# Altium footprint library Connectors.PcbLib: 6 footprints
Each footprint in its own frame and in the unit in brackets; x right, y up, seen from the top. Pads: shape width x height; smd on the part's side, far side on the other; paste and mask are expansions set on the pad; w line width, h text height; cw(c..) or ccw(c..) is an arc to the next point about the centre after c.
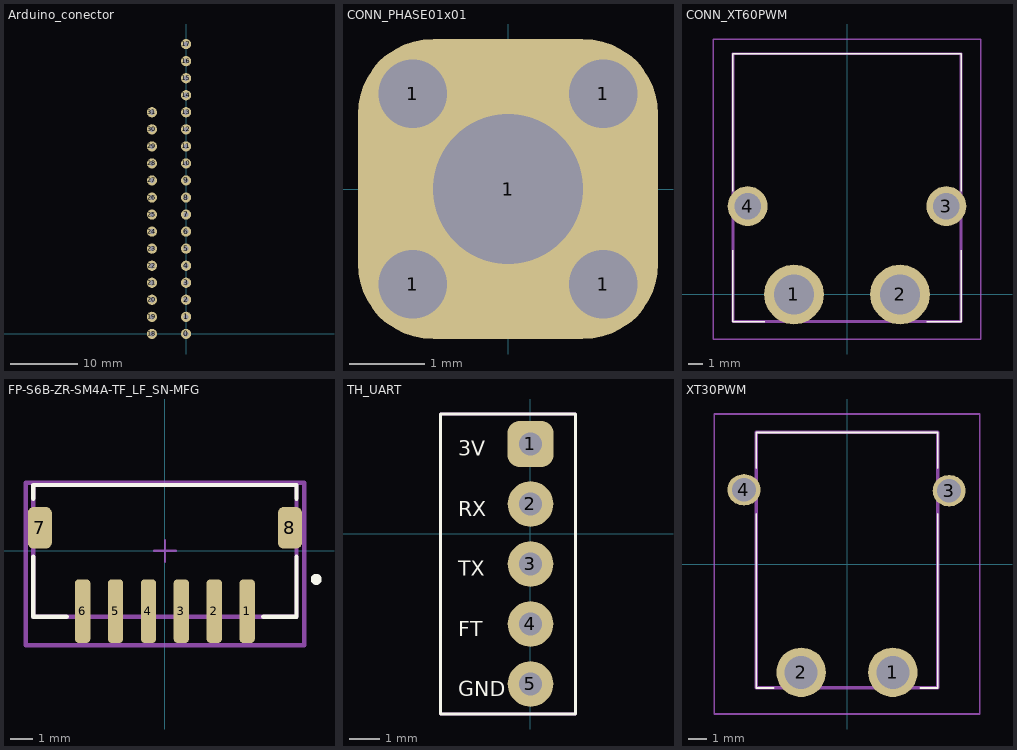
[diagram p0: the footprints below, top view; thin cyan lines are the x and y axes]

## Arduino_conector [mil]
pads (32):
  round 60 hole 30: 0(0,0) 1(0,100) 2(0,200) 3(0,300) 4(0,400) 5(0,500) 6(0,600) 7(0,700) 8(0,800) 9(0,900) 10(0,1000) 11(0,1100) 12(0,1200) 13(0,1300) 14(0,1400) 15(0,1500) 16(0,1600) 17(0,1700) 18(-200,0) 19(-200,100) 20(-200,200) 21(-200,300) 22(-200,400) 23(-200,500) 24(-200,600) 25(-200,700) 26(-200,800) 27(-200,900) 28(-200,1000) 29(-200,1100) 30(-200,1200) 31(-200,1300)

## CONN_PHASE01x01 [mm] "Conector for motor2"
pads (5):
  oval 1.255x1.255 hole 0.91 mask+0: 1(-1.27,-1.27) 1(-1.27,1.27) 1(1.27,-1.27) 1(1.27,1.27)
  rrect50% 4x4 hole 2 mask+0.102: 1(0,0)

## CONN_XT60PWM [mm]
pads (4):
  round 4.05 hole 2.7: 1(-3.6,0) 2(3.6,0)
  round 2.7 hole 1.8: 3(6.75,6) 4(-6.75,6)
Top Overlay:
  lines w0.1: -7.75,3 -7.75,-1.85 -5.6,-1.85 ; -7.75,7 -7.75,16.35 7.75,16.35 7.75,7 ; 5.4,-1.85 7.75,-1.85 7.75,3
Top Assembly:
  text ".Designator" at 2.794,14.766 h1
Mechanical 15:
  lines w0.2: -7.75,-1.85 7.75,-1.85 7.75,16.35 -7.75,16.35 -7.75,-1.85
Mechanical 20:
  lines w0.1: -9.1,-3.025 9.1,-3.025 9.1,17.35 -9.1,17.35 -9.1,-3.025
3D body "XT60PW-M.stp": height 8.5, standoff -2.45, extent -7.975,-1.959 7.925,16.319

## FP-S6B-ZR-SM4A-TF_LF_SN-MFG [mm]
pads (8):
  rrect50% 0.7x2.9 smd paste+0 mask+0: 1(3.75,-2.75) 2(2.25,-2.75) 3(0.75,-2.75) 4(-0.75,-2.75) 5(-2.25,-2.75) 6(-3.75,-2.75)
  rrect50% 1.1x1.9 smd paste+0 mask+0: 7(-5.7,1.05) 8(5.7,1.05)
Top Overlay:
  circle w0.25: c6.9,-1.3 r0.125
  lines w0.2: -6,-0.275 -6,-3 -4.475,-3 ; -6,2.375 -6,3 6,3 6,2.375 ; 4.475,-3 6,-3 6,-0.275
Top Courtyard:
  lines w0.2: -6.35,-4.3 -6.35,3.1 6.35,3.1 6.35,-4.3 -6.35,-4.3
Top Assembly:
  lines w0.2: -6.35,-4.3 -6.35,3.1 6.35,3.1 6.35,-4.3 -6.35,-4.3
  text ".Designator" at 0,-0.601 h1
Top 3D Body:
  lines w0.2: -6,-3 -6,3 6,3 6,-3 -6,-3
Top Component Center:
  lines w0.1: -0.5,0 0.5,0 ; 0,-0.5 0,0.5
3D body "Conn_JST_S6B-ZR-SM4A-TF_LF_SN_eec.STEP": height 0.25, standoff 0, extent -6.35,-4.3 6.35,3.1

## TH_UART [mil]
pads (5):
  rrect50% 60x60 hole 30: 1(0,118.11)
  round 60 hole 30: 2(0,39.37) 3(0,-39.37) 4(0,-118.11) 5(0,-196.85)
Top Overlay:
  lines w3.94: -118.11,-236.22 59.06,-236.22 59.06,157.48 -118.11,157.48 -118.11,-236.22
  text "3V" at -94.49,102.36 h19.68
  text "RX" at -94.49,23.62 h19.68
  text "TX" at -94.49,-55.12 h19.68
  text "FT" at -94.49,-133.86 h19.68
  text "GND" at -94.49,-212.6 h19.68
Bottom Courtyard:
  lines w3.94: -118.11,-236.22 59.06,-236.22 59.06,157.48 -118.11,157.48

## XT30PWM [mm]
pads (4):
  round 2.7 hole 1.8: 1(2.5,-5.912) 2(-2.5,-5.912)
  oval 1.8x1.7 hole 1.3: 3(5.575,4) 4(-5.625,4.05)
Top Overlay:
  lines w0.1: -4.95,2.737 -4.95,-6.762 -4,-6.762 ; -4.95,5.237 -4.95,7.187 4.95,7.187 4.95,5.237 ; 4,-6.762 4.95,-6.762 4.95,2.737
Mechanical 15:
  lines w0.2: -4.95,-6.762 -4.95,7.187 4.95,7.187 4.95,-6.762 -4.95,-6.762
Mechanical 20:
  lines w0.1: -7.25,-8.188 -7.25,8.188 7.25,8.188 7.25,-8.188 -7.25,-8.188
3D body "XT30PW-M.stp": height 5.15, standoff -2.35, extent -6.675,-6.825 6.625,7.125